# Altium footprint library Crystals.PcbLib: 4 footprints
Each footprint in its own frame and in the unit in brackets; x right, y up, seen from the top. Pads: shape width x height; smd on the part's side, far side on the other; paste and mask are expansions set on the pad; w line width, h text height; cw(c..) or ccw(c..) is an arc to the next point about the centre after c.
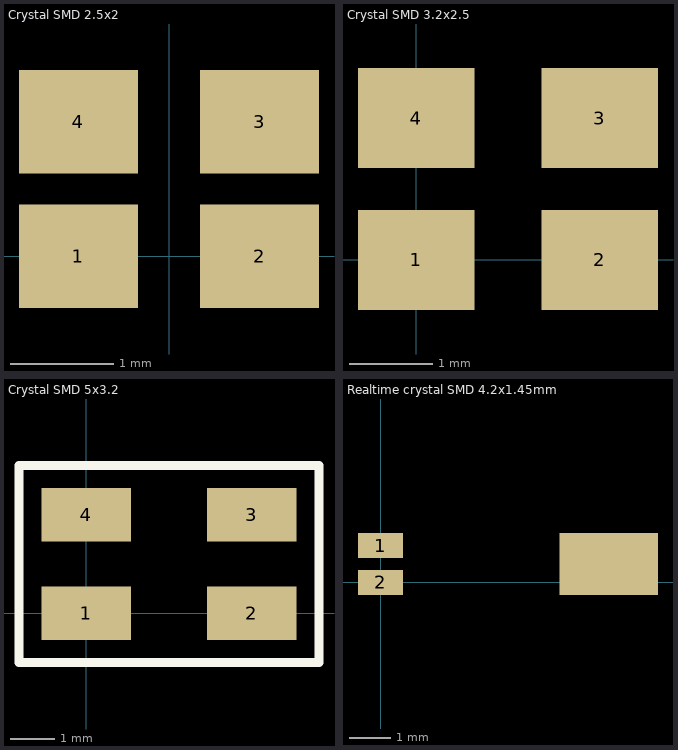
[diagram p0: the footprints below, top view; thin cyan lines are the x and y axes]

## Crystal SMD 2.5x2 [mm]
pads (4):
  rect 1.15x1 smd: 1(-0.875,0) 2(0.875,0) 3(0.875,1.3) 4(-0.875,1.3)
3D body "User Library-2_5 x 2_0 OY-U TAITIEN.STEP": height 1.2, standoff -0.02, extent -1.357,-0.465 1.357,1.765

## Crystal SMD 3.2x2.5 [mm]
pads (4):
  rect 1.4x1.2 smd: 1(0,0) 2(2.2,0) 3(2.2,1.7) 4(0,1.7)
3D body "User Library-Crystal_ECX-32.STEP": height 0.82, standoff 0, extent -0.5,-0.4 2.7,2.1

## Crystal SMD 5x3.2 [mm]
pads (4):
  rect 2x1.2 smd: 1(0,0) 2(3.7,0) 3(3.7,2.2) 4(0,2.2)
Top Overlay:
  lines w0.2: -1.5,-1.1 5.2,-1.1 5.2,3.3 -1.5,3.3 -1.5,-1.1
3D body "User Library-CRYSTALSMD5X32.STEP": height 1, standoff 0, extent -0.7,-0.5 4.3,2.7

## Realtime crystal SMD 4.2x1.45mm [mm]
pads (3):
  rect 1.1x0.6 smd: 1(0,0.9) 2(0,0)
  rect 2.4x1.5 smd: ""(5.55,0.45)
3D body "User Library-MS2V-T1S.STEP": height 1.51, standoff 0.01, extent -0.5,-0.3 6.7,1.2
3D body: height 0.8, standoff 0, extent 6.2,-0.8 6.2,-0.8